# Altium footprint library DO-216AA.PcbLib: 1 footprints
Each footprint in its own frame and in the unit in brackets; x right, y up, seen from the top. Pads: shape width x height; smd on the part's side, far side on the other; paste and mask are expansions set on the pad; w line width, h text height; cw(c..) or ccw(c..) is an arc to the next point about the centre after c.
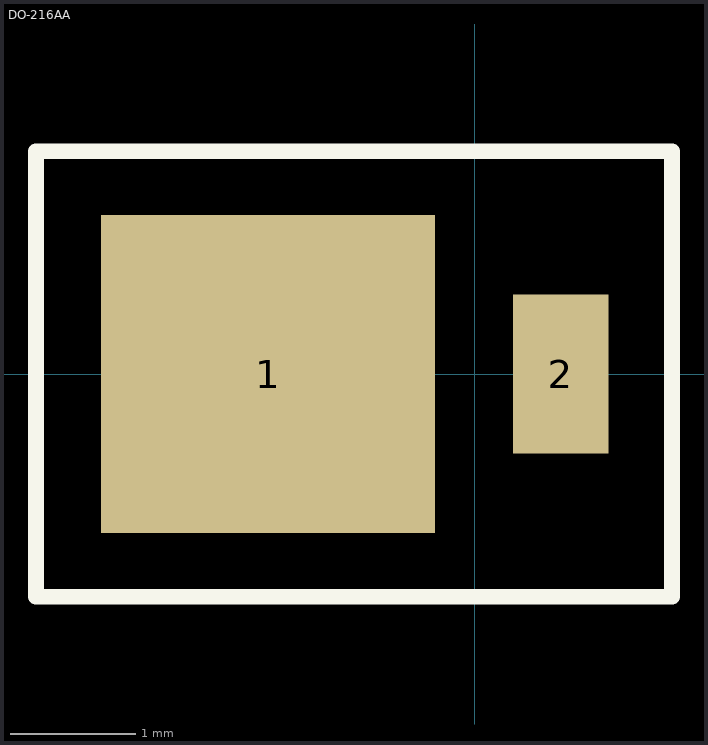
[diagram p0: the footprint, top view; thin cyan lines are the x and y axes]

## DO-216AA [mil]
height 45
pads (2):
  rect 105x100 smd: 1(-65,0)
  rect 30x50 smd: 2(27,0)
TopOverlay:
  lines w5: -138,-70 -138,70 62,70 62,-70 -138,-70
3D body: height 39.76, standoff 0, extent -113.05,-39.37 38.52,39.37